# EAGLE library part 22-28-4080 (library 22-28-4080-CN9)
MOLEX - 22-28-4080 - CONNECTOR, HEADER, 8POS, 1ROW, 2.54MM
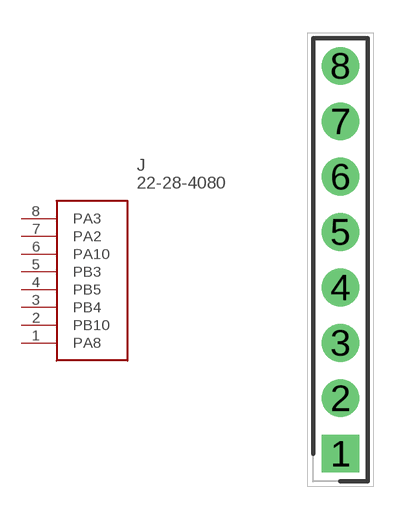
[diagram p0: symbol with the pads of HDRV6W66P0X254_1X6_1524X249X83; footprint HDRV6W66P0X254_1X6_1524X249X83]

Designator prefix J

## 22-28-4080  [HDRV6W66P0X254_1X6_1524X249X83]
1  PA8
2  PB10
3  PB4
4  PB5
5  PB3
6  PA10
7  PA2
8  PA3

## Footprint HDRV6W66P0X254_1X6_1524X249X83 (pad centres in mm)
22-28-4060
drill 1.15 pad 1.725 square: 1 0,-8.89
drill 1.15 pad 1.725: 2 0,-6.35; 3 0,-3.81; 4 0,-1.27; 5 0,1.27; 6 0,3.81; 7 0,6.35; 8 0,8.89